# Altium schematic symbol library VTS LIB.SchLib: 2 symbols
Pins are listed as number, name and electrical type; pins without a type are passive.

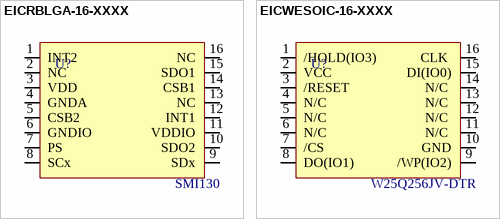
[diagram p0: symbols EICRBLGA-16-XXXX to EICWESOIC-16-XXXX]

## EICRBLGA-16-XXXX
designator U?, comment value SMI130  (hidden comment: IC ACCEL/GYRO I2C/SPI 16LGA)
Manufacturer: Robert Bosch; Vendor Part Number: custom; Internal Part Number: EICRBLGA-16-XXXX; Vendor Name: custom(Robert Bosch); 3rd Auxiliary Field: RoHS Compliant; 1st Auxiliary Field: 2.4V-3.6V; Component Height (mm): 0.95mm; Temp Co: -40C to +85C; Part Type: IC ACCEL/GYRO I2C/SPI 16LGA; 4th Auxillary field: *; Manufacturer Part Number: SMI130
footprint LGA50P300X450X95-16N (IC ACCEL/GYRO I2C/SPI 16LGA)
pins: 1 INT2, 2 NC, 3 VDD, 4 GNDA, 5 CSB2, 6 GNDIO, 7 PS, 8 SCx, 9 SDx, 10 SDO2, 11 VDDIO, 12 INT1, 13 NC, 14 CSB1, 15 SDO1, 16 NC

## EICWESOIC-16-XXXX
designator U?, comment value W25Q256JV-DTR  (hidden comment: IC FLASH 256M SPI 133MHZ  16SOIC)
Manufacturer: Winbond; Vendor Part Number: custom; Internal Part Number: EICWESOIC-16-XXXX; Vendor Name: custom(Windbond); 3rd Auxiliary Field: RoHS Compliant; 1st Auxiliary Field: 2.7V-3.6V; Component Height (mm): 2.49mm; Temp Co: -40C to +105C; Part Type: IC FLASH 256M SPI 133MHZ  16SOIC; 4th Auxillary field: *; Manufacturer Part Number: W25Q256JV-DTR
footprint SOIC127P1064X1049X264-16N (SOIC, 16-Leads, Body 10.29x7.49mm, Pitch 1.27mm, IPC Medium Density)
pins: 1 /HOLD(IO3), 2 VCC , 3 /RESET, 4 N/C, 5 N/C, 6 N/C, 7 /CS, 8 DO(IO1), 9 /WP(IO2), 10 GND, 11 N/C , 12 N/C , 13 N/C , 14 N/C , 15 DI(IO0), 16 CLK 